# Altium footprint library con-phoenix-508.PCBLIB: 118 footprints (part 2 of 8)
Each footprint in its own frame and in the unit in brackets; x right, y up, seen from the top. Pads: shape width x height; smd on the part's side, far side on the other; paste and mask are expansions set on the pad; w line width, h text height; cw(c..) or ccw(c..) is an arc to the next point about the centre after c.
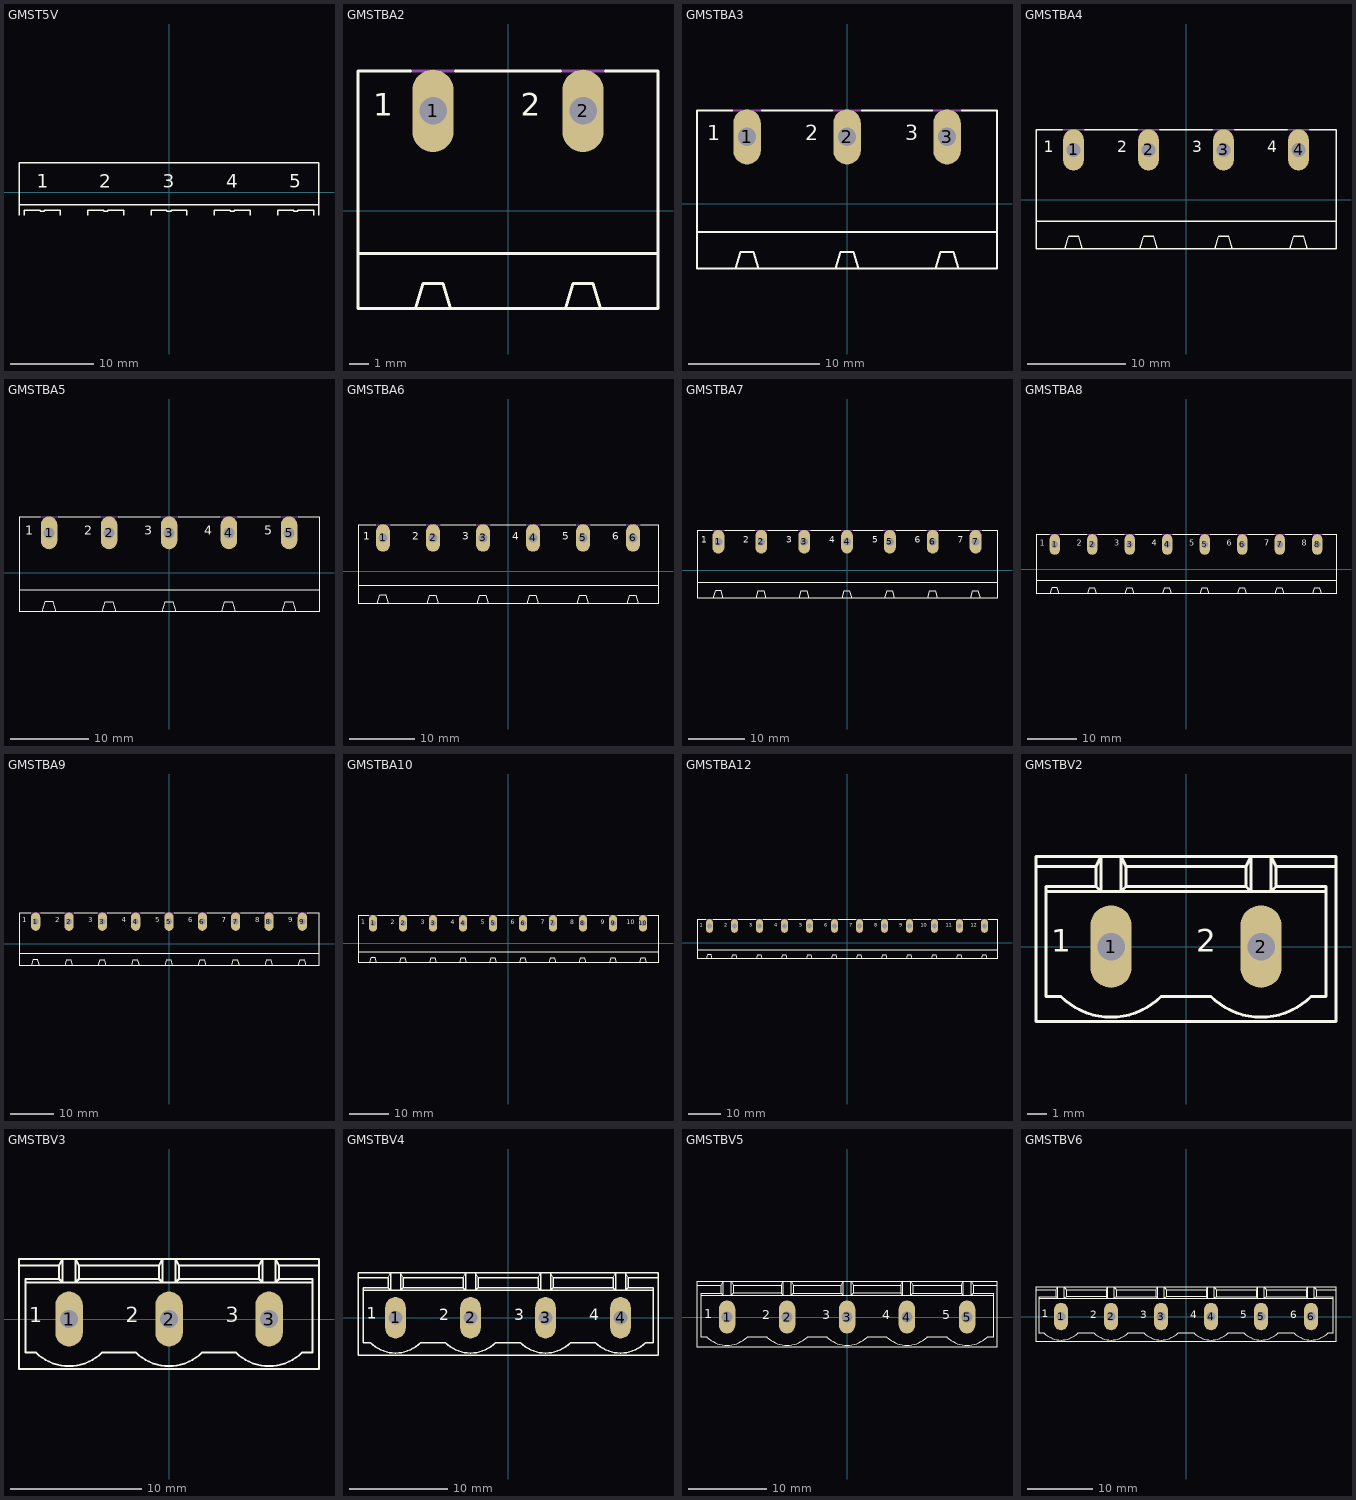
[diagram p1: the footprints below, top view; thin cyan lines are the x and y axes]

## GMST5V [mil]
Top Overlay:
  lines w6: -710,-110 -710,-60 ; -685,-110 -685,-85 -610,-85 -610,-90 -590,-90 -590,-85 -515,-85 -515,-110 ; -385,-110 -385,-85 -310,-85 -310,-90 -290,-90 -290,-85 -215,-85 -215,-110 ; -85,-110 -85,-85 -10,-85 -10,-90 10,-90 10,-85 85,-85 85,-110 ; 215,-110 215,-85 290,-85 290,-90 310,-90 310,-85 385,-85 385,-110 ; 515,-110 515,-85 590,-85 590,-90 610,-90 610,-85 685,-85 685,-110 ; 710,-110 710,-60 ; -710,-60 -710,140 710,140 710,-60 ; -710,-60 710,-60
  text "1" at -625,0 h108.5
  text "2" at -330,0 h108.5
  text "3" at -30,0 h108.5
  text "4" at 270,0 h108.5
  text "5" at 570,0 h108.5

## GMSTBA2 [mil]
pads (2):
  oval 82.5x165 hole 55: 1(-150,200) 2(150,200)
Top Overlay:
  lines w6: -195,280 -300,280 -300,-85 ; -185,-195 -170,-145 -130,-145 -115,-195 ; -105,280 105,280 ; 115,-195 130,-145 170,-145 185,-195 ; 195,280 300,280 300,-85 ; -300,-85 300,-85 ; -300,-85 -300,-195 300,-195 300,-85
  text "1" at -270,175 h77.5
  text "2" at 25,175 h77.5
Mechanical 16:
  lines w6: -195,280 -105,280 ; 105,280 195,280

## GMSTBA3 [mil]
pads (3):
  oval 82.5x165 hole 55: 1(-300,200) 2(0,200) 3(300,200)
Top Overlay:
  lines w6: -345,280 -450,280 -450,-85 ; -335,-195 -320,-145 -280,-145 -265,-195 ; -255,280 -45,280 ; -35,-195 -20,-145 20,-145 35,-195 ; 45,280 255,280 ; 265,-195 280,-145 320,-145 335,-195 ; 345,280 450,280 450,-85 ; -450,-85 450,-85 ; -450,-85 -450,-195 450,-195 450,-85
  text "1" at -420,175 h77.5
  text "2" at -125,175 h77.5
  text "3" at 175,175 h77.5
Mechanical 16:
  lines w6: -345,280 -255,280 ; -45,280 45,280 ; 255,280 345,280

## GMSTBA4 [mil]
pads (4):
  oval 82.5x165 hole 55: 1(-450,200) 2(-150,200) 3(150,200) 4(450,200)
Top Overlay:
  lines w6: -495,280 -600,280 -600,-85 ; -485,-195 -470,-145 -430,-145 -415,-195 ; -405,280 -195,280 ; -185,-195 -170,-145 -130,-145 -115,-195 ; -105,280 105,280 ; 115,-195 130,-145 170,-145 185,-195 ; 195,280 405,280 ; 495,280 600,280 600,-85 ; -600,-85 600,-85 ; -600,-85 -600,-195 415,-195 ; 415,-195 485,-195 ; 415,-195 430,-145 470,-145 485,-195 ; 485,-195 600,-195 600,-85
  text "1" at -570,175 h77.5
  text "2" at -275,175 h77.5
  text "3" at 25,175 h77.5
  text "4" at 325,175 h77.5
Mechanical 16:
  lines w6: -495,280 -405,280 ; -195,280 -105,280 ; 105,280 195,280 ; 405,280 495,280

## GMSTBA5 [mil]
pads (5):
  oval 82.5x165 hole 55: 1(-600,200) 2(-300,200) 3(0,200) 4(300,200) 5(600,200)
Top Overlay:
  lines w6: -645,280 -750,280 -750,-85 ; -635,-195 -620,-145 -580,-145 -565,-195 ; -555,280 -345,280 ; -335,-195 -320,-145 -280,-145 -265,-195 ; -255,280 -45,280 ; -35,-195 -20,-145 20,-145 35,-195 ; 45,280 255,280 ; 345,280 555,280 ; 645,280 750,280 750,-85 ; -750,-85 750,-85 ; -750,-85 -750,-195 265,-195 ; 265,-195 335,-195 ; 265,-195 280,-145 320,-145 335,-195 ; 335,-195 565,-195 ; 565,-195 635,-195 ; 565,-195 580,-145 620,-145 635,-195 ; 635,-195 750,-195 750,-85
  text "1" at -720,175 h77.5
  text "2" at -425,175 h77.5
  text "3" at -125,175 h77.5
  text "4" at 175,175 h77.5
  text "5" at 475,175 h77.5
Mechanical 16:
  lines w6: -645,280 -555,280 ; -345,280 -255,280 ; -45,280 45,280 ; 255,280 345,280 ; 555,280 645,280

## GMSTBA6 [mil]
pads (6):
  oval 82.5x165 hole 55: 1(-750,200) 2(-450,200) 3(-150,200) 4(150,200) 5(450,200) 6(750,200)
Top Overlay:
  lines w6: -795,280 -900,280 -900,-85 ; -785,-195 -770,-145 -730,-145 -715,-195 ; -705,280 -495,280 ; -485,-195 -470,-145 -430,-145 -415,-195 ; -405,280 -195,280 ; -185,-195 -170,-145 -130,-145 -115,-195 ; -105,280 105,280 ; 195,280 405,280 ; 495,280 705,280 ; 795,280 900,280 900,-85 ; -900,-85 900,-85 ; -900,-85 -900,-195 115,-195 ; 115,-195 185,-195 ; 115,-195 130,-145 170,-145 185,-195 ; 185,-195 415,-195 ; 415,-195 485,-195 ; 415,-195 430,-145 470,-145 485,-195 ; 485,-195 715,-195 ; 715,-195 785,-195 ; 715,-195 730,-145 770,-145 785,-195 ; 785,-195 900,-195 900,-85
  text "1" at -870,175 h77.5
  text "2" at -575,175 h77.5
  text "3" at -275,175 h77.5
  text "4" at 25,175 h77.5
  text "5" at 325,175 h77.5
  text "6" at 625,175 h77.5
Mechanical 16:
  lines w6: -795,280 -705,280 ; -495,280 -405,280 ; -195,280 -105,280 ; 105,280 195,280 ; 405,280 495,280 ; 705,280 795,280

## GMSTBA7 [mil]
pads (7):
  oval 82.5x165 hole 55: 1(-900,200) 2(-600,200) 3(-300,200) 4(0,200) 5(300,200) 6(600,200) 7(900,200)
Top Overlay:
  lines w6: -945,280 -1050,280 -1050,-85 ; -935,-195 -920,-145 -880,-145 -865,-195 ; -855,280 -645,280 ; -635,-195 -620,-145 -580,-145 -565,-195 ; -555,280 -345,280 ; -335,-195 -320,-145 -280,-145 -265,-195 ; -255,280 -45,280 ; 45,280 255,280 ; 345,280 555,280 ; 645,280 855,280 ; 945,280 1050,280 1050,-85 ; -1050,-85 1050,-85 ; -1050,-85 -1050,-195 -35,-195 ; -35,-195 35,-195 ; -35,-195 -20,-145 20,-145 35,-195 ; 35,-195 265,-195 ; 265,-195 335,-195 ; 265,-195 280,-145 320,-145 335,-195 ; 335,-195 565,-195 ; 565,-195 635,-195 ; 565,-195 580,-145 620,-145 635,-195 ; 635,-195 865,-195 ; 865,-195 935,-195 ; 865,-195 880,-145 920,-145 935,-195 ; 935,-195 1050,-195 1050,-85
  text "1" at -1020,175 h77.5
  text "2" at -725,175 h77.5
  text "3" at -425,175 h77.5
  text "4" at -125,175 h77.5
  text "5" at 175,175 h77.5
  text "6" at 475,175 h77.5
  text "7" at 775,175 h77.5
Mechanical 16:
  lines w6: -945,280 -855,280 ; -645,280 -555,280 ; -345,280 -255,280 ; -45,280 45,280 ; 255,280 345,280 ; 555,280 645,280 ; 855,280 945,280

## GMSTBA8 [mil]
pads (8):
  oval 82.5x165 hole 55: 1(-1050,200) 2(-750,200) 3(-450,200) 4(-150,200) 5(150,200) 6(450,200) 7(750,200) 8(1050,200)
Top Overlay:
  lines w6: -1095,280 -1200,280 -1200,-85 ; -1085,-195 -1070,-145 -1030,-145 -1015,-195 ; -1005,280 -795,280 ; -785,-195 -770,-145 -730,-145 -715,-195 ; -705,280 -495,280 ; -485,-195 -470,-145 -430,-145 -415,-195 ; -405,280 -195,280 ; -105,280 105,280 ; 195,280 405,280 ; 495,280 705,280 ; 795,280 1005,280 ; 1095,280 1200,280 1200,-85 ; -1200,-85 1200,-85 ; -1200,-85 -1200,-195 -185,-195 ; -185,-195 -115,-195 ; -185,-195 -170,-145 -130,-145 -115,-195 ; -115,-195 115,-195 ; 115,-195 185,-195 ; 115,-195 130,-145 170,-145 185,-195 ; 185,-195 415,-195 ; 415,-195 485,-195 ; 415,-195 430,-145 470,-145 485,-195 ; 485,-195 715,-195 ; 715,-195 785,-195 ; 715,-195 730,-145 770,-145 785,-195 ; 785,-195 1015,-195 ; 1015,-195 1085,-195 ; 1015,-195 1030,-145 1070,-145 1085,-195 ; 1085,-195 1200,-195 1200,-85
  text "1" at -1170,175 h77.5
  text "2" at -875,175 h77.5
  text "3" at -575,175 h77.5
  text "4" at -275,175 h77.5
  text "5" at 25,175 h77.5
  text "6" at 325,175 h77.5
  text "7" at 625,175 h77.5
  text "8" at 925,175 h77.5
Mechanical 16:
  lines w6: -1095,280 -1005,280 ; -795,280 -705,280 ; -495,280 -405,280 ; -195,280 -105,280 ; 105,280 195,280 ; 405,280 495,280 ; 705,280 795,280 ; 1005,280 1095,280

## GMSTBA9 [mil]
pads (9):
  oval 82.5x165 hole 55: 1(-1200,200) 2(-900,200) 3(-600,200) 4(-300,200) 5(0,200) 6(300,200) 7(600,200) 8(900,200) 9(1200,200)
Top Overlay:
  lines w6: -1245,280 -1350,280 -1350,-85 ; -1235,-195 -1220,-145 -1180,-145 -1165,-195 ; -1155,280 -945,280 ; -935,-195 -920,-145 -880,-145 -865,-195 ; -855,280 -645,280 ; -635,-195 -620,-145 -580,-145 -565,-195 ; -555,280 -345,280 ; -255,280 -45,280 ; 45,280 255,280 ; 345,280 555,280 ; 645,280 855,280 ; 945,280 1155,280 ; 1245,280 1350,280 1350,-85 ; -1350,-85 1350,-85 ; -1350,-85 -1350,-195 -335,-195 ; -335,-195 -265,-195 ; -335,-195 -320,-145 -280,-145 -265,-195 ; -265,-195 -35,-195 ; -35,-195 35,-195 ; -35,-195 -20,-145 20,-145 35,-195 ; 35,-195 265,-195 ; 265,-195 335,-195 ; 265,-195 280,-145 320,-145 335,-195 ; 335,-195 565,-195 ; 565,-195 635,-195 ; 565,-195 580,-145 620,-145 635,-195 ; 635,-195 865,-195 ; 865,-195 935,-195 ; 865,-195 880,-145 920,-145 935,-195 ; 935,-195 1165,-195 ; 1165,-195 1235,-195 ; 1165,-195 1180,-145 1220,-145 1235,-195 ; 1235,-195 1350,-195 1350,-85
  text "1" at -1320,175 h77.5
  text "2" at -1025,175 h77.5
  text "3" at -725,175 h77.5
  text "4" at -425,175 h77.5
  text "5" at -125,175 h77.5
  text "6" at 175,175 h77.5
  text "7" at 475,175 h77.5
  text "8" at 775,175 h77.5
  text "9" at 1075,175 h77.5
Mechanical 16:
  lines w6: -1245,280 -1155,280 ; -945,280 -855,280 ; -645,280 -555,280 ; -345,280 -255,280 ; -45,280 45,280 ; 255,280 345,280 ; 555,280 645,280 ; 855,280 945,280 ; 1155,280 1245,280

## GMSTBA10 [mil]
pads (10):
  oval 82.5x165 hole 55: 1(-1350,200) 2(-1050,200) 3(-750,200) 4(-450,200) 5(-150,200) 6(150,200) 7(450,200) 8(750,200) 9(1050,200) 10(1350,200)
Top Overlay:
  lines w6: -1395,280 -1500,280 -1500,-85 ; -1385,-195 -1370,-145 -1330,-145 -1315,-195 ; -1305,280 -1095,280 ; -1085,-195 -1070,-145 -1030,-145 -1015,-195 ; -1005,280 -795,280 ; -785,-195 -770,-145 -730,-145 -715,-195 ; -705,280 -495,280 ; -405,280 -195,280 ; -105,280 105,280 ; 195,280 405,280 ; 495,280 705,280 ; 795,280 1005,280 ; 1095,280 1305,280 ; 1395,280 1500,280 1500,-85 ; -1500,-85 1500,-85 ; -1500,-85 -1500,-195 -485,-195 ; -485,-195 -415,-195 ; -485,-195 -470,-145 -430,-145 -415,-195 ; -415,-195 -185,-195 ; -185,-195 -115,-195 ; -185,-195 -170,-145 -130,-145 -115,-195 ; -115,-195 115,-195 ; 115,-195 185,-195 ; 115,-195 130,-145 170,-145 185,-195 ; 185,-195 415,-195 ; 415,-195 485,-195 ; 415,-195 430,-145 470,-145 485,-195 ; 485,-195 715,-195 ; 715,-195 785,-195 ; 715,-195 730,-145 770,-145 785,-195 ; 785,-195 1015,-195 ; 1015,-195 1085,-195 ; 1015,-195 1030,-145 1070,-145 1085,-195 ; 1085,-195 1315,-195 ; 1315,-195 1385,-195 ; 1315,-195 1330,-145 1370,-145 1385,-195 ; 1385,-195 1500,-195 1500,-85
  text "1" at -1470,175 h77.5
  text "2" at -1175,175 h77.5
  text "3" at -875,175 h77.5
  text "4" at -575,175 h77.5
  text "5" at -275,175 h77.5
  text "6" at 25,175 h77.5
  text "7" at 325,175 h77.5
  text "8" at 625,175 h77.5
  text "9" at 925,175 h77.5
  text "10" at 1185,175 h77.5
Mechanical 16:
  lines w6: -1395,280 -1305,280 ; -1095,280 -1005,280 ; -795,280 -705,280 ; -495,280 -405,280 ; -195,280 -105,280 ; 105,280 195,280 ; 405,280 495,280 ; 705,280 795,280 ; 1005,280 1095,280 ; 1305,280 1395,280

## GMSTBA12 [mil]
pads (12):
  oval 82.5x165 hole 55: 1(-1650,200) 2(-1350,200) 3(-1050,200) 4(-750,200) 5(-450,200) 6(-150,200) 7(150,200) 8(450,200) 9(750,200) 10(1050,200) 11(1350,200) 12(1650,200)
Top Overlay:
  lines w6: -1695,280 -1800,280 -1800,-85 ; -1685,-195 -1670,-145 -1630,-145 -1615,-195 ; -1605,280 -1395,280 ; -1385,-195 -1370,-145 -1330,-145 -1315,-195 ; -1305,280 -1095,280 ; -1085,-195 -1070,-145 -1030,-145 -1015,-195 ; -1005,280 -795,280 ; -705,280 -495,280 ; -405,280 -195,280 ; -105,280 105,280 ; 195,280 405,280 ; 495,280 705,280 ; 795,280 1005,280 ; 1095,280 1305,280 ; 1395,280 1605,280 ; 1695,280 1800,280 1800,-85 ; -1800,-85 1800,-85 ; -1800,-85 -1800,-195 -785,-195 ; -785,-195 -715,-195 ; -785,-195 -770,-145 -730,-145 -715,-195 ; -715,-195 -485,-195 ; -485,-195 -415,-195 ; -485,-195 -470,-145 -430,-145 -415,-195 ; -415,-195 -185,-195 ; -185,-195 -115,-195 ; -185,-195 -170,-145 -130,-145 -115,-195 ; -115,-195 115,-195 ; 115,-195 185,-195 ; 115,-195 130,-145 170,-145 185,-195 ; 185,-195 415,-195 ; 415,-195 485,-195 ; 415,-195 430,-145 470,-145 485,-195 ; 485,-195 715,-195 ; 715,-195 785,-195 ; 715,-195 730,-145 770,-145 785,-195 ; 785,-195 1015,-195 ; 1015,-195 1085,-195 ; 1015,-195 1030,-145 1070,-145 1085,-195 ; 1085,-195 1315,-195 ; 1315,-195 1385,-195 ; 1315,-195 1330,-145 1370,-145 1385,-195 ; 1385,-195 1615,-195 ; 1615,-195 1685,-195 ; 1615,-195 1630,-145 1670,-145 1685,-195 ; 1685,-195 1800,-195 1800,-85
  text "1" at -1770,175 h77.5
  text "2" at -1475,175 h77.5
  text "3" at -1175,175 h77.5
  text "4" at -875,175 h77.5
  text "5" at -575,175 h77.5
  text "6" at -275,175 h77.5
  text "7" at 25,175 h77.5
  text "8" at 325,175 h77.5
  text "9" at 625,175 h77.5
  text "10" at 885,175 h77.5
  text "11" at 1185,175 h77.5
  text "12" at 1485,175 h77.5
Mechanical 16:
  lines w6: -1695,280 -1605,280 ; -1395,280 -1305,280 ; -1095,280 -1005,280 ; -795,280 -705,280 ; -495,280 -405,280 ; -195,280 -105,280 ; 105,280 195,280 ; 405,280 495,280 ; 705,280 795,280 ; 1005,280 1095,280 ; 1305,280 1395,280 ; 1605,280 1695,280

## GMSTBV2 [mil]
pads (2):
  oval 82.5x165 hole 55: 1(-150,0) 2(150,0)
Top Overlay:
  lines w6: -300,160 -300,-150 300,-150 300,160 ; -300,160 -300,180 -170,180 ; -300,160 -180,160 ; -280,110 -170,110 ; -280,110 -280,-100 -250,-100 ccw(c-150,0) -50,-100 50,-100 ccw(c150,0) 250,-100 280,-100 280,110 ; -280,110 -280,120 -180,120 ; -180,120 -170,110 ; -180,120 -180,160 ; -180,160 -170,180 ; -170,110 -130,110 ; -170,110 -170,180 ; -170,180 -130,180 ; -130,110 130,110 ; -130,110 -130,180 ; -130,110 -120,120 ; -130,180 130,180 ; -130,180 -120,160 ; -120,120 -120,160 ; -120,120 120,120 ; -120,160 120,160 ; 120,120 120,160 ; 120,120 130,110 ; 120,160 130,180 ; 130,110 170,110 ; 130,110 130,180 ; 130,180 170,180 ; 170,110 280,110 ; 170,110 170,180 ; 170,110 180,120 ; 170,180 300,180 300,160 ; 170,180 180,160 ; 180,120 180,160 ; 180,120 280,120 280,110 ; 180,160 300,160
  text "1" at -270,-25 h77.5
  text "2" at 20,-25 h77.5
Mechanical 16:
  lines w6: -175,-25 -175,25 ; -175,-25 -125,-25 ; -175,-25 -125,25 ; -175,25 -125,25 ; -175,25 -125,-25 ; -125,-25 -125,25 ; 125,-25 125,25 ; 125,-25 175,-25 ; 125,-25 175,25 ; 125,25 175,25 ; 125,25 175,-25 ; 175,-25 175,25

## GMSTBV3 [mil]
pads (3):
  oval 82.5x165 hole 55: 1(-300,0) 2(0,0) 3(300,0)
Top Overlay:
  lines w6: -450,160 -450,-150 450,-150 450,160 ; -450,160 -450,180 -320,180 ; -450,160 -330,160 ; -430,110 -320,110 ; -430,110 -430,-100 -400,-100 ccw(c-300,0) -200,-100 -100,-100 ccw(c0,0) 100,-100 200,-100 ccw(c300,0) 400,-100 430,-100 430,110 ; -430,110 -430,120 -330,120 ; -330,120 -320,110 ; -330,120 -330,160 ; -330,160 -320,180 ; -320,110 -280,110 ; -320,110 -320,180 ; -320,180 -280,180 ; -280,110 -20,110 ; -280,110 -280,180 ; -280,110 -270,120 ; -280,180 -20,180 ; -280,180 -270,160 ; -270,120 -270,160 ; -270,120 -30,120 ; -270,160 -30,160 ; -30,120 -30,160 ; -30,120 -20,110 ; -30,160 -20,180 ; -20,110 20,110 ; -20,110 -20,180 ; -20,180 20,180 ; 20,110 280,110 ; 20,110 20,180 ; 20,110 30,120 ; 20,180 280,180 ; 20,180 30,160 ; 30,120 30,160 ; 30,120 270,120 ; 30,160 270,160 ; 270,120 270,160 ; 270,120 280,110 ; 270,160 280,180 ; 280,110 320,110 ; 280,110 280,180 ; 280,180 320,180 ; 320,110 430,110 ; 320,110 320,180 ; 320,110 330,120 ; 320,180 450,180 450,160 ; 320,180 330,160 ; 330,120 330,160 ; 330,120 430,120 430,110 ; 330,160 450,160
  text "1" at -420,-25 h77.5
  text "2" at -130,-25 h77.5
  text "3" at 170,-25 h77.5
Mechanical 16:
  lines w6: -325,-25 -325,25 ; -325,-25 -275,-25 ; -325,-25 -275,25 ; -325,25 -275,25 ; -325,25 -275,-25 ; -275,-25 -275,25 ; -25,-25 -25,25 ; -25,-25 25,-25 ; -25,-25 25,25 ; -25,25 25,25 ; -25,25 25,-25 ; 25,-25 25,25 ; 275,-25 275,25 ; 275,-25 325,-25 ; 275,-25 325,25 ; 275,25 325,25 ; 275,25 325,-25 ; 325,-25 325,25

## GMSTBV4 [mil]
pads (4):
  oval 82.5x165 hole 55: 1(-450,0) 2(-150,0) 3(150,0) 4(450,0)
Top Overlay:
  lines w6: -600,160 -600,-150 600,-150 600,160 ; -600,160 -600,180 -470,180 ; -600,160 -480,160 ; -580,110 -580,-100 -550,-100 ccw(c-450,0) -350,-100 -250,-100 ccw(c-150,0) -50,-100 50,-100 ccw(c150,0) 250,-100 350,-100 ccw(c450,0) 550,-100 580,-100 580,110 ; -580,110 -580,120 -480,120 ; -580,110 -470,110 ; -480,120 -470,110 ; -480,120 -480,160 ; -480,160 -470,180 ; -470,110 -430,110 ; -470,110 -470,180 ; -470,180 -430,180 ; -430,110 -170,110 ; -430,110 -430,180 ; -430,110 -420,120 ; -430,180 -170,180 ; -430,180 -420,160 ; -420,120 -420,160 ; -420,120 -180,120 ; -420,160 -180,160 ; -180,120 -180,160 ; -180,120 -170,110 ; -180,160 -170,180 ; -170,110 -130,110 ; -170,110 -170,180 ; -170,180 -130,180 ; -130,110 -130,180 ; -130,110 -120,120 ; -130,110 130,110 ; -130,180 -120,160 ; -130,180 130,180 ; -120,120 -120,160 ; -120,120 120,120 ; -120,160 120,160 ; 120,120 130,110 ; 120,120 120,160 ; 120,160 130,180 ; 130,110 170,110 ; 130,110 130,180 ; 130,180 170,180 ; 170,110 430,110 ; 170,110 170,180 ; 170,110 180,120 ; 170,180 430,180 ; 170,180 180,160 ; 180,120 180,160 ; 180,120 420,120 ; 180,160 420,160 ; 420,120 420,160 ; 420,120 430,110 ; 420,160 430,180 ; 430,110 470,110 ; 430,110 430,180 ; 430,180 470,180 ; 470,110 580,110 ; 470,110 470,180 ; 470,110 480,120 ; 470,180 600,180 600,160 ; 470,180 480,160 ; 480,120 480,160 ; 480,120 580,120 580,110 ; 480,160 600,160
  text "1" at -565,-20 h77.5
  text "2" at -275,-25 h77.5
  text "3" at 25,-25 h77.5
  text "4" at 325,-25 h77.5
Mechanical 16:
  lines w6: -475,-25 -475,25 ; -475,-25 -425,-25 ; -475,-25 -425,25 ; -475,25 -425,25 ; -475,25 -425,-25 ; -425,-25 -425,25 ; -175,-25 -175,25 ; -175,-25 -125,-25 ; -175,-25 -125,25 ; -175,25 -125,25 ; -175,25 -125,-25 ; -125,-25 -125,25 ; 125,-25 125,25 ; 125,-25 175,-25 ; 125,-25 175,25 ; 125,25 175,25 ; 125,25 175,-25 ; 175,-25 175,25 ; 425,-25 425,25 ; 425,-25 475,-25 ; 425,-25 475,25 ; 425,25 475,25 ; 425,25 475,-25 ; 475,-25 475,25

## GMSTBV5 [mil]
pads (5):
  oval 82.5x165 hole 55: 1(-600,0) 2(-300,0) 3(0,0) 4(300,0) 5(600,0)
Top Overlay:
  lines w6: -750,160 -750,-150 750,-150 750,160 ; -750,160 -750,180 -620,180 ; -750,160 -630,160 ; -730,110 -730,-100 -700,-100 ccw(c-600,0) -500,-100 -400,-100 ccw(c-300,0) -200,-100 -100,-100 ccw(c0,0) 100,-100 200,-100 ccw(c300,0) 400,-100 500,-100 ccw(c600,0) 700,-100 730,-100 730,110 ; -730,110 -730,120 -630,120 ; -730,110 -620,110 ; -630,120 -620,110 ; -630,120 -630,160 ; -630,160 -620,180 ; -620,110 -580,110 ; -620,110 -620,180 ; -620,180 -580,180 ; -580,110 -320,110 ; -580,110 -580,180 ; -580,110 -570,120 ; -580,180 -320,180 ; -580,180 -570,160 ; -570,120 -570,160 ; -570,120 -330,120 ; -570,160 -330,160 ; -330,120 -330,160 ; -330,120 -320,110 ; -330,160 -320,180 ; -320,110 -280,110 ; -320,110 -320,180 ; -320,180 -280,180 ; -280,110 -280,180 ; -280,110 -270,120 ; -280,110 -20,110 ; -280,180 -270,160 ; -280,180 -20,180 ; -270,120 -270,160 ; -270,120 -30,120 ; -270,160 -30,160 ; -30,120 -20,110 ; -30,120 -30,160 ; -30,160 -20,180 ; -20,110 20,110 ; -20,110 -20,180 ; -20,180 20,180 ; 20,110 280,110 ; 20,110 20,180 ; 20,110 30,120 ; 20,180 280,180 ; 20,180 30,160 ; 30,120 30,160 ; 30,120 270,120 ; 30,160 270,160 ; 270,120 270,160 ; 270,120 280,110 ; 270,160 280,180 ; 280,110 320,110 ; 280,110 280,180 ; 280,180 320,180 ; 320,110 580,110 ; 320,110 320,180 ; 320,110 330,120 ; 320,180 580,180 ; 320,180 330,160 ; 330,120 330,160 ; 330,120 570,120 ; 330,160 570,160 ; 570,120 570,160 ; 570,120 580,110 ; 570,160 580,180 ; 580,110 620,110 ; 580,110 580,180 ; 580,180 620,180 ; 620,110 730,110 ; 620,110 620,180 ; 620,110 630,120 ; 620,180 750,180 750,160 ; 620,180 630,160 ; 630,120 730,120 730,110 ; 630,120 630,160 ; 630,160 750,160
  text "1" at -715,-20 h77.5
  text "2" at -425,-25 h77.5
  text "3" at -125,-25 h77.5
  text "4" at 175,-25 h77.5
  text "5" at 475,-25 h77.5
Mechanical 16:
  lines w6: -625,-25 -625,25 ; -625,-25 -575,-25 ; -625,-25 -575,25 ; -625,25 -575,25 ; -625,25 -575,-25 ; -575,-25 -575,25 ; -325,-25 -325,25 ; -325,-25 -275,-25 ; -325,-25 -275,25 ; -325,25 -275,25 ; -325,25 -275,-25 ; -275,-25 -275,25 ; -25,-25 -25,25 ; -25,-25 25,-25 ; -25,-25 25,25 ; -25,25 25,25 ; -25,25 25,-25 ; 25,-25 25,25 ; 275,-25 275,25 ; 275,-25 325,-25 ; 275,-25 325,25 ; 275,25 325,25 ; 275,25 325,-25 ; 325,-25 325,25 ; 575,-25 625,-25 ; 575,-25 575,25 ; 575,-25 625,25 ; 575,25 625,25 ; 575,25 625,-25 ; 625,-25 625,25

## GMSTBV6 [mil]
pads (6):
  oval 82.5x165 hole 55: 1(-750,0) 2(-450,0) 3(-150,0) 4(150,0) 5(450,0) 6(750,0)
Top Overlay:
  lines w6: -900,160 -900,-150 900,-150 900,160 ; -900,160 -900,180 -770,180 ; -900,160 -780,160 ; -880,110 -880,-100 -850,-100 ccw(c-750,0) -650,-100 -550,-100 ccw(c-450,0) -350,-100 -250,-100 ccw(c-150,0) -50,-100 50,-100 ccw(c150,0) 250,-100 350,-100 ccw(c450,0) 550,-100 650,-100 ccw(c750,0) 850,-100 880,-100 880,110 ; -880,110 -880,120 -780,120 ; -880,110 -770,110 ; -780,120 -770,110 ; -780,120 -780,160 ; -780,160 -770,180 ; -770,110 -730,110 ; -770,110 -770,180 ; -770,180 -730,180 ; -730,110 -470,110 ; -730,110 -730,180 ; -730,110 -720,120 ; -730,180 -470,180 ; -730,180 -720,160 ; -720,120 -720,160 ; -720,120 -480,120 ; -720,160 -480,160 ; -480,120 -480,160 ; -480,120 -470,110 ; -480,160 -470,180 ; -470,110 -430,110 ; -470,110 -470,180 ; -470,180 -430,180 ; -430,110 -430,180 ; -430,110 -420,120 ; -430,110 -170,110 ; -430,180 -420,160 ; -430,180 -170,180 ; -420,120 -420,160 ; -420,120 -180,120 ; -420,160 -180,160 ; -180,120 -170,110 ; -180,120 -180,160 ; -180,160 -170,180 ; -170,110 -130,110 ; -170,110 -170,180 ; -170,180 -130,180 ; -130,110 130,110 ; -130,110 -130,180 ; -130,110 -120,120 ; -130,180 130,180 ; -130,180 -120,160 ; -120,120 -120,160 ; -120,120 120,120 ; -120,160 120,160 ; 120,120 120,160 ; 120,120 130,110 ; 120,160 130,180 ; 130,110 170,110 ; 130,110 130,180 ; 130,180 170,180 ; 170,110 430,110 ; 170,110 170,180 ; 170,110 180,120 ; 170,180 430,180 ; 170,180 180,160 ; 180,120 180,160 ; 180,120 420,120 ; 180,160 420,160 ; 420,120 420,160 ; 420,120 430,110 ; 420,160 430,180 ; 430,110 470,110 ; 430,110 430,180 ; 430,180 470,180 ; 470,110 730,110 ; 470,110 470,180 ; 470,110 480,120 ; 470,180 730,180 ; 470,180 480,160 ; 480,120 720,120 ; 480,120 480,160 ; 480,160 720,160 ; 720,120 720,160 ; 720,120 730,110 ; 720,160 730,180 ; 730,110 770,110 ; 730,110 730,180 ; 730,180 770,180 ; 770,110 880,110 ; 770,110 770,180 ; 770,110 780,120 ; 770,180 900,180 900,160 ; 770,180 780,160 ; 780,120 880,120 880,110 ; 780,120 780,160 ; 780,160 900,160
  text "1" at -865,-20 h77.5
  text "2" at -575,-25 h77.5
  text "3" at -275,-25 h77.5
  text "4" at 25,-25 h77.5
  text "5" at 325,-25 h77.5
  text "6" at 625,-25 h77.5
Mechanical 16:
  lines w6: -775,-25 -775,25 ; -775,-25 -725,-25 ; -775,-25 -725,25 ; -775,25 -725,25 ; -775,25 -725,-25 ; -725,-25 -725,25 ; -475,-25 -475,25 ; -475,-25 -425,-25 ; -475,-25 -425,25 ; -475,25 -425,25 ; -475,25 -425,-25 ; -425,-25 -425,25 ; -175,-25 -175,25 ; -175,-25 -125,-25 ; -175,-25 -125,25 ; -175,25 -125,25 ; -175,25 -125,-25 ; -125,-25 -125,25 ; 125,-25 125,25 ; 125,-25 175,-25 ; 125,-25 175,25 ; 125,25 175,25 ; 125,25 175,-25 ; 175,-25 175,25 ; 425,-25 425,25 ; 425,-25 475,-25 ; 425,-25 475,25 ; 425,25 475,25 ; 425,25 475,-25 ; 475,-25 475,25 ; 725,-25 725,25 ; 725,-25 775,-25 ; 725,-25 775,25 ; 725,25 775,25 ; 725,25 775,-25 ; 775,-25 775,25